# Altium schematic symbol library KP_Fedorov_SM5-71B.SchLib: 16 symbols
Pins are listed as number, name and electrical type; pins without a type are passive.

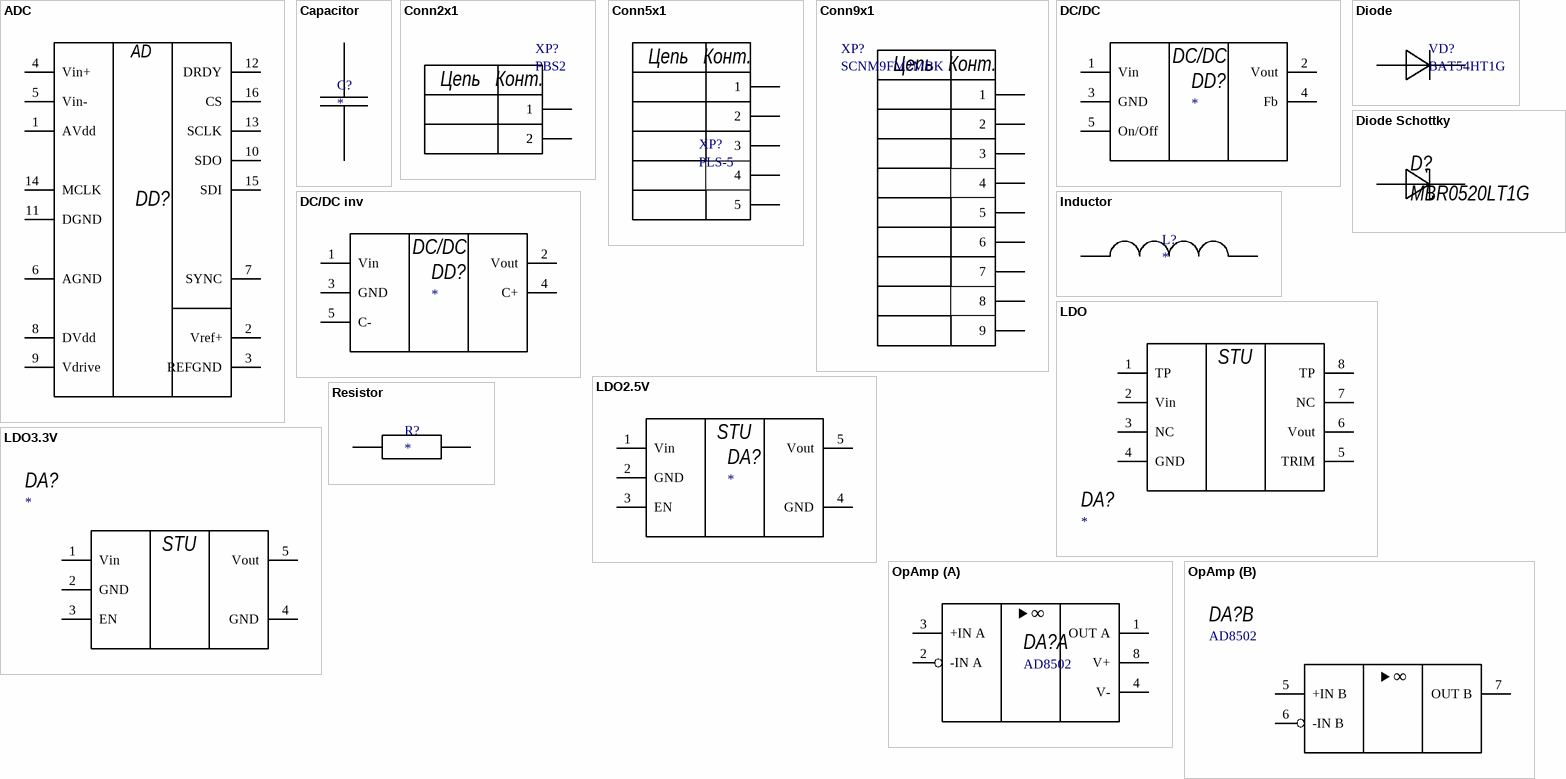
[diagram p0: symbols ADC to Resistor]

## ADC
designator DD?, comment 24bit 128k  (value not drawn)
AD7767
footprint TSSOP-16
pins: 1 AVdd, 2 Vref+, 3 REFGND, 4 Vin+, 5 Vin-, 6 AGND, 7 SYNC, 8 DVdd, 9 Vdrive, 10 SDO, 11 DGND, 12 DRDY, 13 SCLK, 14 MCLK, 15 SDI, 16 CS
text: AD

## Capacitor
designator C?
ValueType: Конденсатор; Value: *; Tolerance: *; Dielectric: *; Voltage: *; ESR: *; URL: *; Temp: *; Power: *; Case: *; ValueManufacturer: *; ValueManufacturerPartNumber: *; ValueDescription: *
footprint 0805 Capicator
pins: 1, 2

## Conn2x1
designator XP?, comment PBS2
Type: Connector
footprint PBS 2x1 (Connector; Header; 5 Position)
pins: 1, 2, 2
text: Цепь; Конт.

## Conn5x1
designator XP?, comment PLS-5
Manufacturer: Amass; ComponentLink1URL: chipdip.ru/product/pls-5; Part Number: PLS-5; Type: Connector
footprint PBS 5x1 (Connector; Header; 5 Position)
pins: 1, 2, 3, 4, 5
text: Цепь; Конт.

## Conn9x1
designator XP?, comment SCNM9FM2MBK
DB-9M; Part Number: XT30PW; Manufacturer: Amass; ComponentLink1Description: AliExpress; ComponentLink1URL: https://www.chipdip.ru/product/scnm9fm2mbk; Type: Connector
footprint DB9
pins: 1, 2, 3, 4, 5, 6, 7, 8, 9
text: Цепь; Конт.

## DC/DC
designator DD?
LM2575S-5.0/NOPB
footprint TO-263-5L
pins: 1 Vin (power), 2 Vout, 3 GND (power), 4 Fb, 5 On/Off (power)

## DC/DC inv
designator DD?
TPS60403DBVR
footprint SOT-23-5
pins: 1 Vin (power), 2 Vout, 3 GND (power), 4 C+, 5 C- (power)

## Diode
designator VD?, comment BAT54HT1G
ValueManufacturer: On Semiconductor; Value: *; Tolerance: *; URL: *; Temp: *; Case: *; ValueManufacturerPartNumber: BAT54HT1G; ValueType: *; ValueDescription: *
footprint SOD-323
pins: A, K

## Diode Schottky
designator D?, comment MBR0520LT1G
link: https://www.chipdip.ru/product/mbr0520lt1
footprint sod-123 - duplicate
pins: 1, 2

## Inductor
designator L?
ValueType: Индуктивность; Case: *; ESR: *; Temp: *; Tolerance: *; URL: *; Value: *; ValueDescription: *; ValueManufacturer: *; ValueManufacturerPartNumber: *
footprint 0805 Inductor
pins: 1, 2

## LDO
designator DA?
ADR445BRZ
footprint SOIC-8
pins: 1 TP, 2 Vin, 3 NC, 4 GND, 5 TRIM, 6 Vout, 7 NC, 8 TP
text: STU

## LDO2.5V
designator DA?
ADM7160AUJZ
footprint SOT-23-5
pins: 1 Vin, 2 GND, 3 EN, 4 GND, 5 Vout
text: STU

## LDO3.3V
designator DA?
TPS78233DDCR
footprint SOT-23-5
pins: 1 Vin, 2 GND, 3 EN, 4 GND, 5 Vout
text: STU

## OpAmp
designator DA?, comment AD8502
ref: chipdip.ru/product/ad8502arjz-reel7
footprint SOT-23-8
part A pins: 1 OUT A, 2 -IN A, 3 +IN A, 4 V-, 8 V+
part B pins: 5 +IN B, 6 -IN B, 7 OUT B
part A text: ▶; ∞
part B text: ▶; ∞

## Resistor
designator R?
ValueType: Резистор; Value: *; Tolerance: *; URL: *; Temp: *; Power: *; Case: *; ValueManufacturer: *; ValueManufacturerPartNumber: *; ValueDescription: *
footprint 0805 Resistor
pins: 1, 2

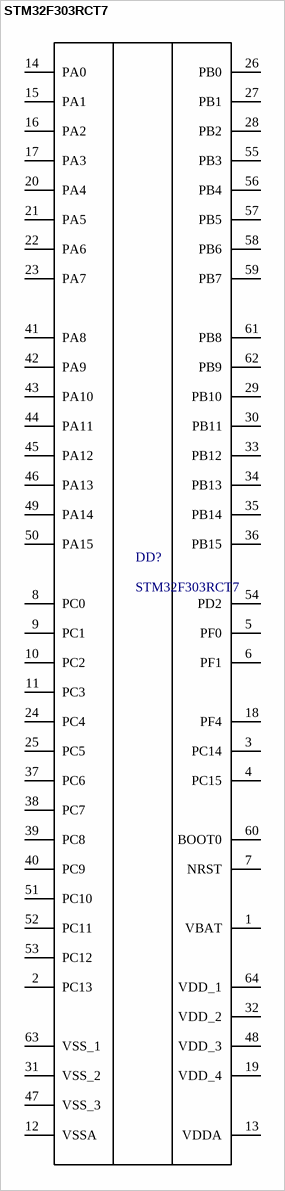
[diagram p1: symbol STM32F303RCT7]

## STM32F303RCT7
designator DD?
ARM Cortex-M4 32-bit MCU, 256 KB Flash, 40 KB Internal RAM, 52 I/Os, 64-pin LQFP, -40 to 105 degC, Tray, 39x12bit ADC; Manufacturer: STMicroelectronics; ComponentLink2Description: Datasheet; ComponentLink2URL: http://www.st.com/st-web-ui/static/active/en/resource/technical/document/datasheet/DM00058181.pdf; ComponentLink3Description: ChipDip; ComponentLink3URL: https://www.chipdip.ru/product1/8001934304?from=suggest_product; Part Number: STM32F303RCT7; Type: IC
footprint LQFP64
pins: 1 VBAT "Backup power supply", 2 PC13 "PC13/TIM1_CH1N/WKUP2,RTC_TAMP1,RTC_TS,RTC_OUT", 3 PC14 "PC14-OSC32_IN(PC14)/OSC32_IN", 4 PC15 "PC15-OSC32_OUT(PC15)/OSC32_OUT", 5 PF0 "PF0-OSC_IN(PF0)/TIM1_CH3N,I2C2_SDA/OSC_IN", 6 PF1 "PF1-OSC_OUT(PF1)/I2C2_SCL/OSC_OUT", 7 NRST "Device reset input / internal reset output (active low)", 8 PC0 "PC0/EVENTOUT/ADC12_IN6,COMP7_INM", 9 PC1 "PC1/EVENTOUT/ADC12_IN7,COMP7_INP", 10 PC2 "PC2/COMP7_OUT,EVENTOUT/ADC12_IN8", 11 PC3 "PC3/TIM1_BKIN2,EVENTOUT/ADC12_IN9", 12 VSSA "Analog ground/Negative reference voltage", 13 VDDA "Analog power supply/Positive reference voltage", 14 PA0 "PA0/USART2_CTS,TIM2_CH1_ETR,TIM8_BKIN,TIM8_ETR,TSC_G1_IO1,COMP1_OUT,EVENTOUT/ADC1_IN1,COMP1_INM,RTC_TAMP2,WKUP1,COMP7_INP", 15 PA1 "PA1/USART2_RTS,TIM2_CH2,TSC_G1_IO2,TIM15_CH1N,RTC_REFIN,EVENTOUT/ADC1_IN2,COMP1_INP,OPAMP1_VINP,OPAMP3_VINP", 16 PA2 "PA2/USART2_TX,TIM2_CH3,TIM15_CH1,TSC_G1_IO3,COMP2_OUT,EVENTOUT/ADC1_IN3,COMP2_INM,OPAMP1_VOUT", 17 PA3 "PA3/USART2_RX,TIM2_CH4,TIM15_CH2,TSC_G1_IO4,EVENTOUT/ADC1_IN4,OPAMP1_VINP,COMP2_INP,OPAMP1_VINM", 18 PF4 "PF4/COMP1_OUT,EVENTOUT/ADC1_IN5", 19 VDD_4 "Digital power supply", 20 PA4 "PA4/SPI1_NSS,SPI3_NSS,I2S3_WS,USART2_CK,TSC_G2_IO1,TIM3_CH2,EVENTOUT/ADC2_IN1,DAC1_OUT1,OPAMP4_VINP,COMP1_INM,COMP2_INM,COMP3_INM,COMP4_INM,COMP5_INM,COMP6_INM,COMP7_INM", 21 PA5 "PA5/SPI1_SCK,TIM2_CH1_ETR,TSC_G2_IO2,EVENTOUT/ADC2_IN2,DAC1_OUT2,OPAMP1_VINP,OPAMP2_VINM,OPAMP3_VINP,COMP1_INM,COMP2_INM,COMP3_INM,COMP4_INM,COMP5_INM,COMP6_INM,COMP7_INM", 22 PA6 "PA6/SPI1_MISO,TIM3_CH1,TIM8_BKIN,TIM1_BKIN,TIM16_CH1,COMP1_OUT,TSC_G2_IO3,EVENTOUT/ADC2_IN3,OPAMP2_VOUT", 23 PA7 "PA7/SPI1_MOSI,TIM3_CH2,TIM17_CH1,TIM1_CH1N,TIM8_CH1N,TSC_G2_IO4,COMP2_OUT,EVENTOUT/ADC2_IN4,COMP2_INP,OPAMP2_VINP,OPAMP1_VINP", 24 PC4 "PC4/USART1_TX,EVENTOUT/ADC2_IN5", 25 PC5 "PC5/USART1_RX,TSC_G3_IO1,EVENTOUT/ADC2_IN11,OPAMP2_VINM,OPAMP1_VINM", 26 PB0 "PB0/TIM3_CH3,TIM1_CH2N,TIM8_CH2N,TSC_G3_IO2,EVENTOUT/ADC3_IN12,COMP4_INP,OPAMP3_VINP,OPAMP2_VINP", 27 PB1 "PB1/TIM3_CH4,TIM1_CH3N,TIM8_CH3N,COMP4_OUT,TSC_G3_IO3,EVENTOUT/ADC3_IN1,OPAMP3_VOUT", 28 PB2 "PB2/TSC_G3_IO4,EVENTOUT/ADC2_IN12,COMP4_INM,OPAMP3_VINM", 29 PB10 "PB10/USART3_TX,TIM2_CH3,TSC_SYNC,EVENTOUT/COMP5_INM,OPAMP4_VINM,OPAMP3_VINM", 30 PB11 "PB11/USART3_RX,TIM2_CH4,TSC_G6_IO1,EVENTOUT/COMP6_INP,OPAMP4_VINP", 31 VSS_2 "Digital ground", 32 VDD_2 "Digital power supply", 33 PB12 "PB12/SPI2_NSS,I2S2_WS,I2C2_SMBA,USART3_CK,TIM1_BKIN,TSC_G6_IO2,EVENTOUT/ADC4_IN3,COMP3_INM,OPAMP4_VOUT", 34 PB13 "PB13/SPI2_SCK,I2S2_CK,USART3_CTS,TIM1_CH1N,TSC_G6_IO3,EVENTOUT/ADC3_IN5,COMP5_INP,OPAMP4_VINP,OPAMP3_VINP", 35 PB14 "PB14/SPI2_MISO,I2S2ext_SD,USART3_RTS,TIM1_CH2N,TIM15_CH1,TSC_G6_IO4,EVENTOUT/COMP3_INP,ADC4_IN4,OPAMP2_VINP", 36 PB15 "PB15/SPI2_MOSI,I2S2_SD,TIM1_CH3N,RTC_REFIN,TIM15_CH1N,TIM15_CH2,EVENTOUT/ADC4_IN5,COMP6_INM", 37 PC6 "PC6/I2S2_MCK,COMP6_OUT,TIM8_CH1,TIM3_CH1,EVENTOUT", 38 PC7 "PC7/I2S3_MCK,TIM8_CH2,TIM3_CH2,COMP5_OUT,EVENTOUT", 39 PC8 "PC8/TIM8_CH3,TIM3_CH3,COMP3_OUT,EVENTOUT", 40 PC9 "PC9/TIM8_CH4,TIM8_BKIN2,TIM3_CH4,I2S_CKIN,EVENTOUT", 41 PA8 "PA8/I2C2_SMBA,I2S2_MCK,USART1_CK,TIM1_CH1,TIM4_ETR,MCO,COMP3_OUT,EVENTOUT", 42 PA9 "PA9/I2C2_SCL,I2S3_MCK,USART1_TX,TIM1_CH2,TIM2_CH3,TIM15_BKIN,TSC_G4_IO1,COMP5_OUT,EVENTOUT", 43 PA10 "PA10/I2C2_SDA,USART1_RX,TIM1_CH3,TIM2_CH4,TIM8_BKIN,TIM17_BKIN,TSC_G4_IO2,COMP6_OUT,EVENTOUT", 44 PA11 "PA11/USART1_CTS,USB_DM,CAN_RX,TIM1_CH1N,TIM1_CH4,TIM1_BKIN2,TIM4_CH1,COMP1_OUT,EVENTOUT", 45 PA12 "PA12/USART1_RTS,USB_DP,CAN_TX,TIM1_CH2N,TIM1_ETR,TIM4_CH2,TIM16_CH1,COMP2_OUT,EVENTOUT", 46 PA13 "PA13/USART3_CTS,TIM4_CH3,TIM16_CH1N,TSC_G4_IO3,IR_OUT,SWDIO-JTMS,EVENTOUT", 47 VSS_3 "Ground", 48 VDD_3 "Digital power supply", 49 PA14 "PA14/I2C1_SDA,USART2_TX,TIM8_CH2,TIM1_BKIN,TSC_G4_IO4,SWCLK-JTCK,EVENTOUT", 50 PA15 "PA15/I2C1_SCL,SPI1_NSS,SPI3_NSS,I2S3_WS,JTDI,USART2_RX,TIM1_BKIN,TIM2_CH1_ETR,TIM8_CH1,EVENTOUT", 51 PC10 "PC10/SPI3_SCK,I2S3_CK,USART3_TX,UART4_TX,TIM8_CH1N,EVENTOUT", 52 PC11 "PC11/SPI3_MISO,I2S3ext_SD,USART3_RX,UART4_RX,TIM8_CH2N,EVENTOUT", 53 PC12 "PC12/SPI3_MOSI,I2S3_SD,USART3_CK,UART5_TX,TIM8_CH3N,EVENTOUT", 54 PD2 "PD2/UART5_RX,TIM3_ETR,TIM8_BKIN,EVENTOUT", 55 PB3 "PB3/SPI3_SCK,I2S3_CK,SPI1_SCK,USART2_TX,TIM2_CH2,TIM3_ETR,TIM4_ETR,TIM8_CH1N,TSC_G5_IO1,JTDO-TRACESWO,EVENTOUT", 56 PB4 "PB4/SPI3_MISO,I2S3ext_SD,SPI1_MISO,USART2_RX,TIM3_CH1,TIM16_CH1,TIM17_BKIN,TIM8_CH2N,TSC_G5_IO2,NJTRST,EVENTOUT", 57 PB5 "PB5/SPI3_MOSI,SPI1_MOSI,I2S3_SD,I2C1_SMBA,USART2_CK,TIM16_BKIN,TIM3_CH2,TIM8_CH3N,TIM17_CH1,EVENTOUT", 58 PB6 "PB6/I2C1_SCL,USART1_TX,TIM16_CH1N,TIM4_CH1,TIM8_CH1,TSC_G5_IO3,TIM8_ETR,TIM8_BKIN2,EVENTOUT", 59 PB7 "PB7/I2C1_SDA,USART1_RX,TIM3_CH4,TIM4_CH2,TIM17_CH1N,TIM8_BKIN,TSC_G5_IO4,EVENTOUT", 60 BOOT0 "Boot memory selection", 61 PB8 "PB8/I2C1_SCL,CAN_RX,TIM16_CH1,TIM4_CH3,TIM8_CH2,TIM1_BKIN,TSC_SYNC,COMP1_OUT,EVENTOUT", 62 PB9 "PB9/I2C1_SDA,CAN_TX,TIM17_CH1,TIM4_CH4,TIM8_CH3,IR_OUT,COMP2_OUT,EVENTOUT", 63 VSS_1 "Ground", 64 VDD_1 "Digital power supply"